# Altium footprint library Chip_Resistor_N.PcbLib: 13 footprints
Each footprint in its own frame and in the unit in brackets; x right, y up, seen from the top. Pads: shape width x height; smd on the part's side, far side on the other; paste and mask are expansions set on the pad; w line width, h text height; cw(c..) or ccw(c..) is an arc to the next point about the centre after c.
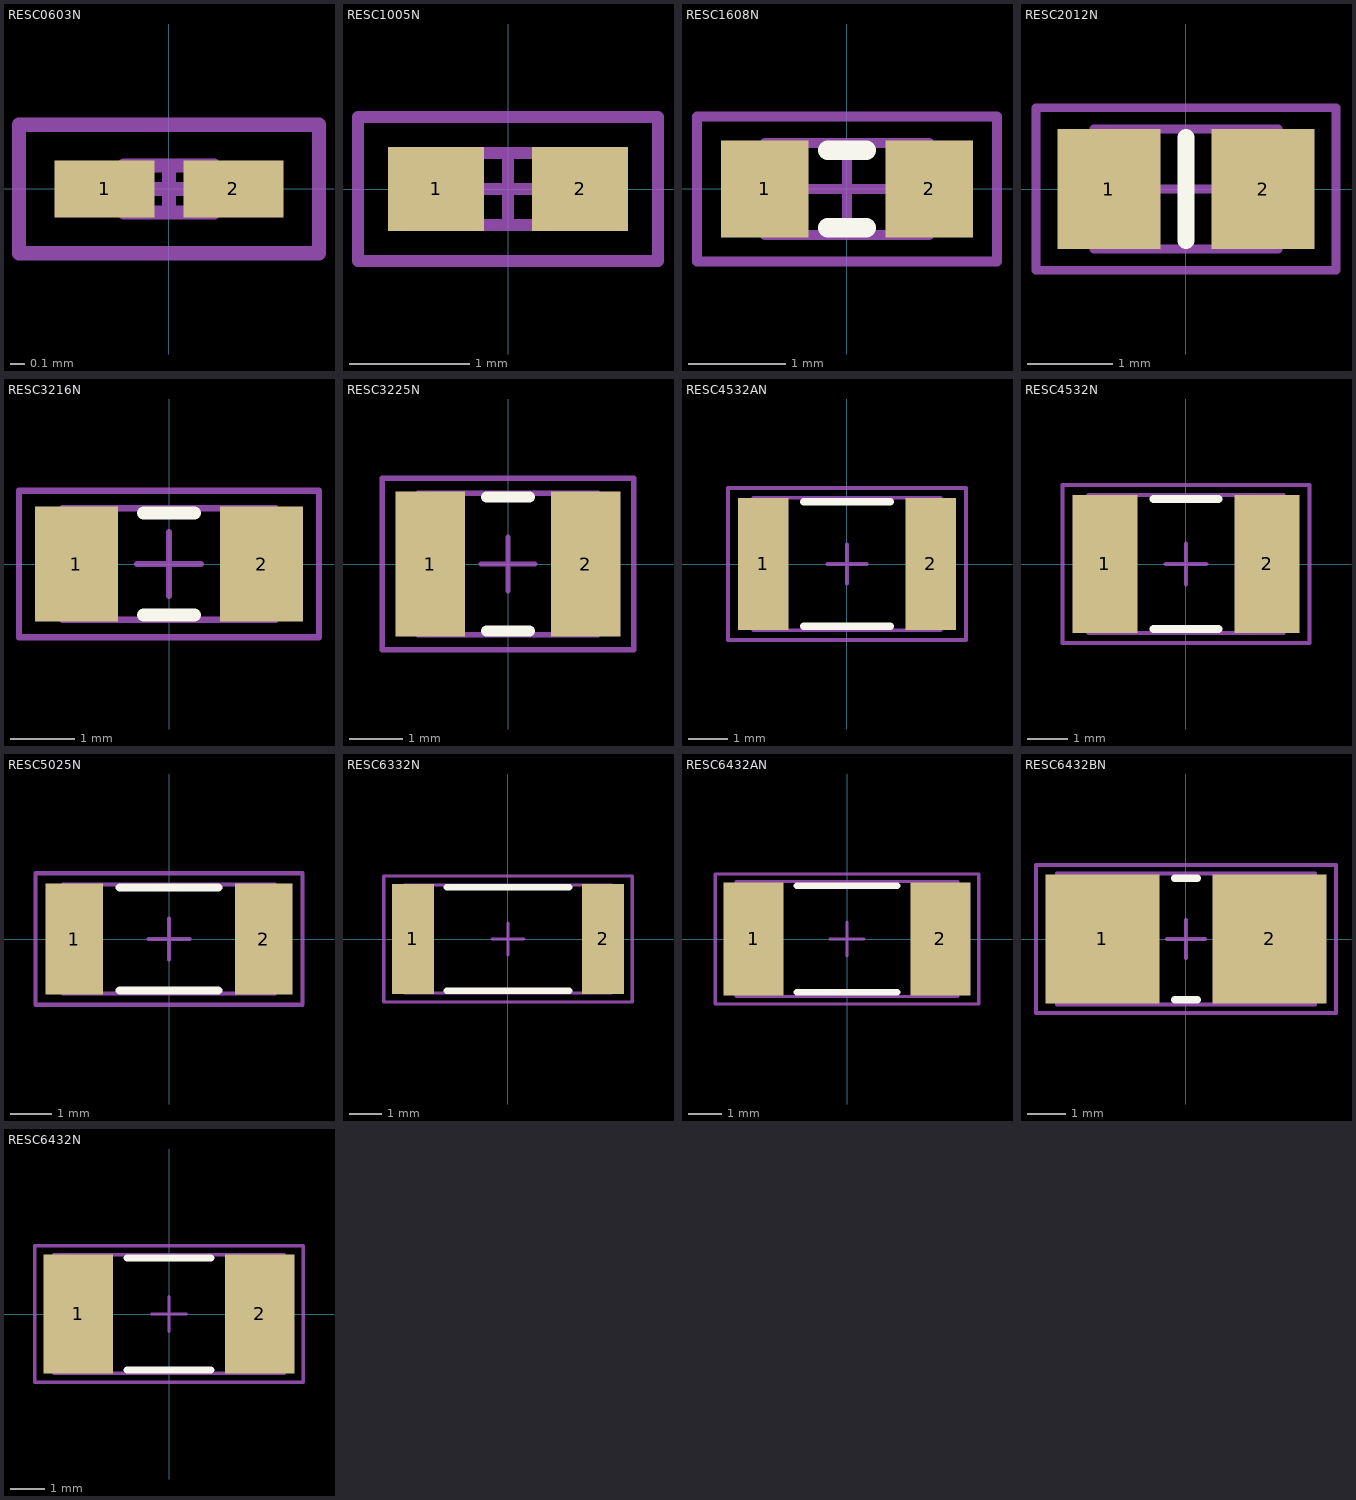
[diagram p0: the footprints below, top view; thin cyan lines are the x and y axes]

## RESC0603N [mm] "Chip Resistor, Body 0.6x0.3mm, IPC Medium Density"
height 0.3
pads (2):
  rect 0.7x0.4 smd: 1(-0.45,0) 2(0.45,0)
Mechanical 13:
  lines w0.1: -0.315,-0.165 0.315,-0.165 0.315,0.165 -0.315,0.165 -0.315,-0.165
Mechanical 15:
  lines w0.1: -0.165,0 0.165,0 ; 0,-0.165 0,0.165 ; -1.05,-0.45 1.05,-0.45 1.05,0.45 -1.05,0.45 -1.05,-0.45
3D body: height 0.3, standoff 0, extent -0.315,-0.165 0.315,0.165

## RESC1005N [mm] "Chip Resistor, Body 1.1x0.5mm, IPC Medium Density"
height 0.4
pads (2):
  rect 0.8x0.7 smd: 1(-0.6,0) 2(0.6,0)
Mechanical 13:
  lines w0.1: -0.55,-0.3 0.55,-0.3 0.55,0.3 -0.55,0.3 -0.55,-0.3
Mechanical 15:
  lines w0.1: -0.3,0 0.3,0 ; 0,-0.3 0,0.3 ; -1.25,-0.6 1.25,-0.6 1.25,0.6 -1.25,0.6 -1.25,-0.6
3D body: height 0.4, standoff 0, extent -0.55,-0.3 0.55,0.3

## RESC1608N [mm] "Chip Resistor, Body 1.6x0.8mm, IPC Medium Density"
height 0.6
pads (2):
  rect 0.9x1 smd: 1(-0.85,0) 2(0.85,0)
Top Overlay:
  lines w0.2: -0.2,-0.4 0.2,-0.4 ; -0.2,0.4 0.2,0.4
Mechanical 13:
  lines w0.1: -0.85,-0.475 -0.85,0.475 0.85,0.475 0.85,-0.475 -0.85,-0.475
Mechanical 15:
  lines w0.1: -0.475,0 0.475,0 ; 0,-0.475 0,0.475 ; -1.55,-0.75 -1.55,0.75 1.55,0.75 1.55,-0.75 -1.55,-0.75
3D body: height 0.6, standoff 0, extent -0.85,-0.475 0.85,0.475

## RESC2012N [mm] "Chip Resistor, Body 2.0x1.3mm, IPC Medium Density"
height 0.65
pads (2):
  rect 1.2x1.4 smd: 1(-0.9,0) 2(0.9,0)
Top Overlay:
  lines w0.2: 0,-0.6 0,0.6
Mechanical 13:
  lines w0.1: -1.075,-0.7 -1.075,0.7 1.075,0.7 1.075,-0.7 -1.075,-0.7
Mechanical 15:
  lines w0.1: -0.5,0 0.5,0 ; 0,-0.5 0,0.5 ; -1.75,-0.95 -1.75,0.95 1.75,0.95 1.75,-0.95 -1.75,-0.95
3D body: height 0.65, standoff 0, extent -1.075,-0.7 1.075,0.7

## RESC3216N [mm] "Chip Resistor, Body 3.2x1.6mm, IPC Medium Density"
height 0.71
pads (2):
  rect 1.3x1.8 smd: 1(-1.45,0) 2(1.45,0)
Top Overlay:
  lines w0.2: -0.4,-0.8 0.4,-0.8 ; -0.4,0.8 0.4,0.8
Mechanical 13:
  lines w0.1: -1.675,-0.875 1.675,-0.875 1.675,0.875 -1.675,0.875 -1.675,-0.875
Mechanical 15:
  lines w0.1: -0.5,0 0.5,0 ; 0,-0.5 0,0.5 ; -2.35,-1.15 2.35,-1.15 2.35,1.15 -2.35,1.15 -2.35,-1.15
3D body: height 0.71, standoff 0, extent -1.675,-0.875 1.675,0.875

## RESC3225N [mm] "Chip Resistor, Body 3.2x2.5mm, IPC Medium Density"
height 0.71
pads (2):
  rect 1.3x2.7 smd: 1(-1.45,0) 2(1.45,0)
Top Overlay:
  lines w0.2: -0.4,-1.25 0.4,-1.25 ; -0.4,1.25 0.4,1.25
Mechanical 13:
  lines w0.1: -1.675,-1.32 1.675,-1.32 1.675,1.32 -1.675,1.32 -1.675,-1.32
Mechanical 15:
  lines w0.1: -0.5,0 0.5,0 ; 0,-0.5 0,0.5 ; -2.35,-1.6 2.35,-1.6 2.35,1.6 -2.35,1.6 -2.35,-1.6
3D body: height 0.71, standoff 0, extent -1.675,-1.32 1.675,1.32

## RESC4532AN [mm] "Chip Resistor, Body 4.5x3.2mm, IPC Medium Density"
height 0.7
pads (2):
  rect 1.3x3.4 smd: 1(-2.15,0) 2(2.15,0)
Top Overlay:
  lines w0.2: -1.1,-1.6 1.1,-1.6 ; -1.1,1.6 1.1,1.6
Mechanical 13:
  lines w0.1: -2.4,-1.7 2.4,-1.7 2.4,1.7 -2.4,1.7 -2.4,-1.7
Mechanical 15:
  lines w0.1: -0.5,0 0.5,0 ; 0,-0.5 0,0.5 ; -3.05,-1.95 3.05,-1.95 3.05,1.95 -3.05,1.95 -3.05,-1.95
3D body: height 0.7, standoff 0, extent -2.4,-1.7 2.4,1.7

## RESC4532N [mm] "Chip Resistor, Body 4.5x3.2mm, IPC Medium Density"
height 0.71
pads (2):
  rect 1.6x3.4 smd: 1(-2,0) 2(2,0)
Top Overlay:
  lines w0.2: -0.8,-1.6 0.8,-1.6 ; -0.8,1.6 0.8,1.6
Mechanical 13:
  lines w0.1: -2.4,-1.7 2.4,-1.7 2.4,1.7 -2.4,1.7 -2.4,-1.7
Mechanical 15:
  lines w0.1: -0.5,0 0.5,0 ; 0,-0.5 0,0.5 ; -3.05,-1.95 3.05,-1.95 3.05,1.95 -3.05,1.95 -3.05,-1.95
3D body: height 0.71, standoff 0, extent -2.4,-1.7 2.4,1.7

## RESC5025N [mm] "Chip Resistor, Body 5.0x2.5mm, IPC Medium Density"
height 0.71
pads (2):
  rect 1.4x2.7 smd: 1(-2.3,0) 2(2.3,0)
Top Overlay:
  lines w0.2: -1.2,-1.25 1.2,-1.25 ; -1.2,1.25 1.2,1.25
Mechanical 13:
  lines w0.1: -2.575,-1.325 2.575,-1.325 2.575,1.325 -2.575,1.325 -2.575,-1.325
Mechanical 15:
  lines w0.1: -0.5,0 0.5,0 ; 0,-0.5 0,0.5 ; -3.25,-1.6 3.25,-1.6 3.25,1.6 -3.25,1.6 -3.25,-1.6
3D body: height 0.71, standoff 0, extent -2.575,-1.325 2.575,1.325

## RESC6332N [mm] "Chip Resistor, Body 6.3x3.2mm, IPC Medium Density"
height 0.71
pads (2):
  rect 1.3x3.4 smd: 1(-2.95,0) 2(2.95,0)
Top Overlay:
  lines w0.2: -1.9,-1.6 1.9,-1.6 ; -1.9,1.6 1.9,1.6
Mechanical 13:
  lines w0.1: -3.225,-1.675 3.225,-1.675 3.225,1.675 -3.225,1.675 -3.225,-1.675
Mechanical 15:
  lines w0.1: -0.5,0 0.5,0 ; 0,-0.5 0,0.5 ; -3.85,-1.95 3.85,-1.95 3.85,1.95 -3.85,1.95 -3.85,-1.95
3D body: height 0.71, standoff 0, extent -3.225,-1.675 3.225,1.675

## RESC6432AN [mm] "Chip Resistor, Body 6.4x3.2mm, IPC Medium Density"
height 1.1
pads (2):
  rect 1.8x3.4 smd: 1(-2.8,0) 2(2.8,0)
Top Overlay:
  lines w0.2: -1.5,-1.6 1.5,-1.6 ; -1.5,1.6 1.5,1.6
Mechanical 13:
  lines w0.1: -3.325,-1.725 3.325,-1.725 3.325,1.725 -3.325,1.725 -3.325,-1.725
Mechanical 15:
  lines w0.1: -0.5,0 0.5,0 ; 0,-0.5 0,0.5 ; -3.95,-1.95 3.95,-1.95 3.95,1.95 -3.95,1.95 -3.95,-1.95
3D body: height 1.1, standoff 0, extent -3.325,-1.725 3.325,1.725

## RESC6432BN [mm] "Chip Resistor, Body 6.4x3.2mm, IPC Medium Density"
height 1.1
pads (2):
  rect 3x3.4 smd: 1(-2.2,0) 2(2.2,0)
Top Overlay:
  lines w0.2: -0.3,-1.6 0.3,-1.6 ; -0.3,1.6 0.3,1.6
Mechanical 13:
  lines w0.1: -3.4,-1.725 3.4,-1.725 3.4,1.725 -3.4,1.725 -3.4,-1.725
Mechanical 15:
  lines w0.1: -0.5,0 0.5,0 ; 0,-0.5 0,0.5 ; -3.95,-1.95 3.95,-1.95 3.95,1.95 -3.95,1.95 -3.95,-1.95
3D body: height 1.1, standoff 0, extent -3.4,-1.725 3.4,1.725

## RESC6432N [mm] "Chip Resistor, Body 6.4x3.2mm, IPC Medium Density"
height 1.2
pads (2):
  rect 2x3.4 smd: 1(-2.6,0) 2(2.6,0)
Top Overlay:
  lines w0.2: -1.2,-1.6 1.2,-1.6 ; -1.2,1.6 1.2,1.6
Mechanical 13:
  lines w0.1: -3.3,-1.7 3.3,-1.7 3.3,1.7 -3.3,1.7 -3.3,-1.7
Mechanical 15:
  lines w0.1: -0.5,0 0.5,0 ; 0,-0.5 0,0.5 ; -3.85,-1.95 3.85,-1.95 3.85,1.95 -3.85,1.95 -3.85,-1.95
3D body: height 1.2, standoff 0, extent -3.3,-1.7 3.3,1.7